# Altium schematic symbol library ADG736.SchLib: 1 symbol
Pins are listed as number, name and electrical type; pins without a type are passive.

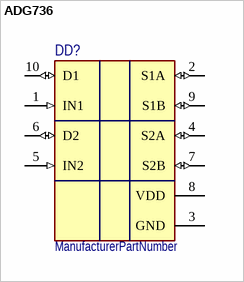
[diagram p0: symbol ADG736]

## ADG736
designator DD?  (value not drawn)
ManufacturerPartNumber: ManufacturerPartNumber
pins: 1 IN1 (in), 2 S1A (io), 3 GND (power), 4 S2A (io), 5 IN2 (in), 6 D2 (io), 7 S2B (io), 8 VDD (power), 9 S1B (io), 10 D1 (io)